# EAGLE library part USB_A (library vinculum)
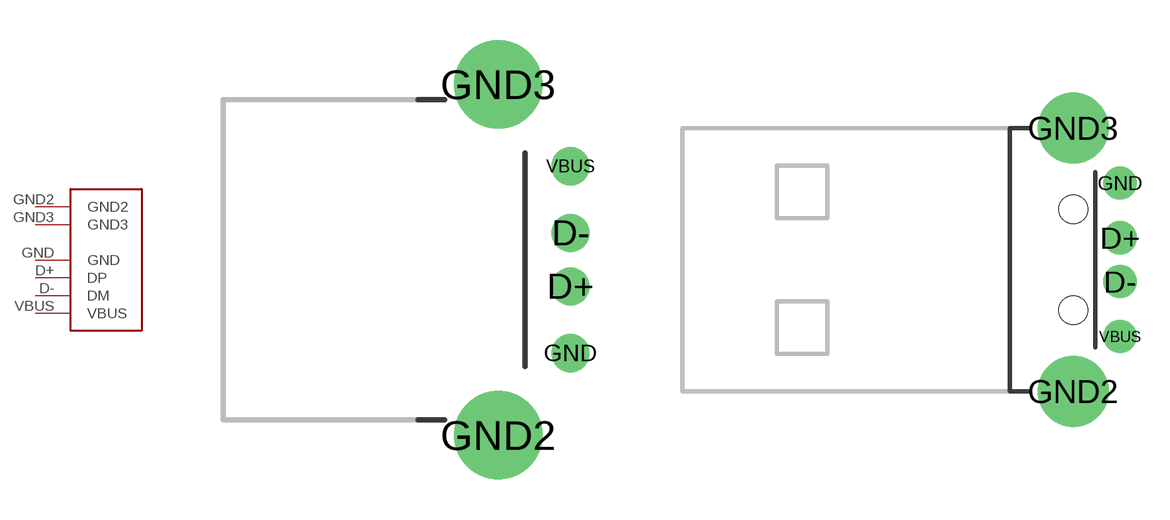
[diagram p1: symbol with the pads of USB-A-F; footprints USB-A-F, USB-A-M]

Designator prefix -

## USB_AF  [USB-A-F]
D+  DP
D-  DM
GND  GND
GND2  GND2
GND3  GND3
VBUS  VBUS

## USB_AM  [USB-A-M]
Pads as for USB-A-F

## Footprint USB-A-F (pad centres in mm)
drill 0.92: D+ 2.71,-1; D- 2.71,1; GND 2.71,-3.5; VBUS 2.71,3.5
drill 2.3: GND2 0,-6.57; GND3 0,6.57

## Footprint USB-A-M (pad centres in mm)
drill 1: D+ 2.13,1; D- 2.13,-1; GND 2.13,3.5; VBUS 2.13,-3.5
drill 2.2: GND2 0,-6; GND3 0,6
hole 1.3 at 0,2.3
hole 1.3 at 0,-2.3